# Altium footprint library jubeat_io.PcbLib: 2 footprints
Each footprint in its own frame and in the unit in brackets; x right, y up, seen from the top. Pads: shape width x height; smd on the part's side, far side on the other; paste and mask are expansions set on the pad; w line width, h text height; cw(c..) or ccw(c..) is an arc to the next point about the centre after c.
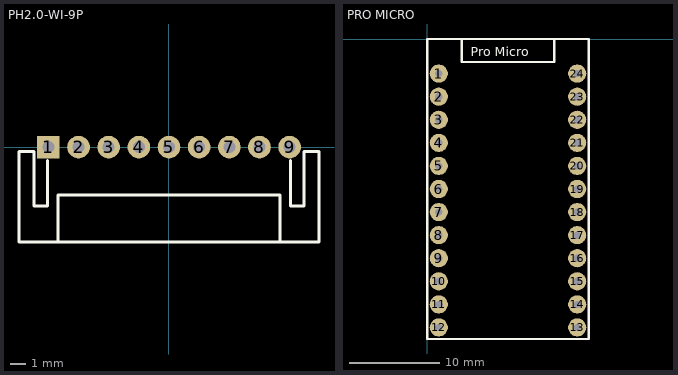
[diagram p0: the footprints below, top view; thin cyan lines are the x and y axes]

## PH2.0-WI-9P [mm] "长：19.9mm，宽：6mm，高：4.7mm"
height 10
pads (9):
  rect 1.5x1.5 hole 0.8: 1(-8,0)
  round 1.5 hole 0.8: 2(-6,0) 3(-4,0) 4(-2,0) 5(0,0) 6(2,0) 7(4,0) 8(6,0) 9(8,0)
Top Overlay:
  lines w0.203: -8.05,-0.9 -8.05,-3.9 -8.95,-3.9 -8.95,-3.3 -8.95,-0.3 -9,-0.3 -9.95,-0.3 -9.95,-6.3 9.95,-6.3 9.95,-0.3 9,-0.3 8.95,-0.3 8.95,-3.3 8.95,-3.9 8.05,-3.9 8.05,-0.9 ; -7.365,-6.215 -7.365,-3.175 7.365,-3.175 7.365,-6.215
Mechanical 15:
  circle w0.05: c0,0 r0.35
  lines w0.05: -0.5,0 0.5,0 ; 0,-0.5 0,0.5
3D body "PH2.0-WI-9P.STEP": height 4.75, standoff -2.65, extent -9.95,-6.3 9.95,0.3

## PRO MICRO [mm]
pads (24):
  round 2 hole 0.8: 1(1.27,-3.81) 2(1.27,-6.35) 3(1.27,-8.89) 4(1.27,-11.43) 5(1.27,-13.97) 6(1.27,-16.51) 7(1.27,-19.05) 8(1.27,-21.59) 9(1.27,-24.13) 10(1.27,-26.67) 11(1.27,-29.21) 12(1.27,-31.75) 13(16.51,-31.75) 14(16.51,-29.21) 15(16.51,-26.67) 16(16.51,-24.13) 17(16.51,-21.59) 18(16.51,-19.05) 19(16.51,-16.51) 20(16.51,-13.97) 21(16.51,-11.43) 22(16.51,-8.89) 23(16.51,-6.35) 24(16.51,-3.81)
Top Overlay:
  lines w0.254: 3.81,0 3.81,-2.54 13.97,-2.54 13.97,-1.27 13.97,0 ; 0,-33.02 17.78,-33.02 17.78,0 0,0 0,-33.02
  text "Pro Micro" at 4.763,-1.905 h1